# EAGLE library part [BUTTON]PTS820_J15M_SMTR_LFS_PTS820_J15M_SMTR_LFS (library SmartTextilePCB)
PTS 820 Series Microminiature SMT Top Actuated Source: Datasheet <http://www.ckswitches.com/media/1474/pts820.pdf>
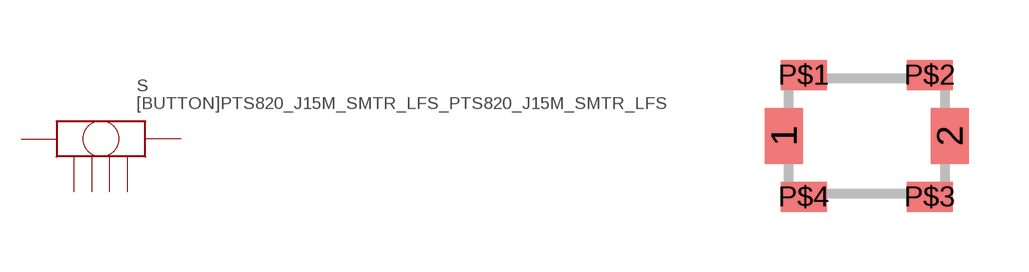
[diagram p1: symbol with the pads of [BUTTON]PTS820_J15M_SMTR_LFS_PTS820_J15; footprint [BUTTON]PTS820_J15M_SMTR_LFS_PTS820_J15]

Designator prefix S

## [BUTTON]PTS820_J15M_SMTR_LFS_PTS820_J15M_SMTR_LFS (DESCRIPTION: PTS 820 Series Microminiature SMT Top Actuated; HEIGHT: mm; MANUFACTURER_NAME: C & K COMPONENTS; MANUFACTURER_PART_NUMBER: PTS820 J15M SMTR LFS; MOUSER_PART_NUMBER: 611-PTS820J15MSMTR; MOUSER_PRICE-STOCK: https://www.mouser.com/Search/Refine.aspx?Keyword=611-PTS820J15MSMTR; RS_PART_NUMBER: 1359503P; RS_PRICE-STOCK: http://uk.rs-online.com/web/p/products/1359503P)  [[BUTTON]PTS820_J15M_SMTR_LFS_PTS820_J15]
1  1
2  2
P$1  P$1
P$2  P$2
P$3  P$3
P$4  P$4

## Footprint [BUTTON]PTS820_J15M_SMTR_LFS_PTS820_J15 (pad centres in mm)
PTS820_J15
smd 0.95 x 1.4: 1 -2.075,0; 2 2.075,0
smd 1.15 x 0.75: P$1 -1.575,1.525; P$2 1.575,1.525; P$3 1.575,-1.525; P$4 -1.575,-1.525